# EAGLE library part USB3.1 (library Connector)
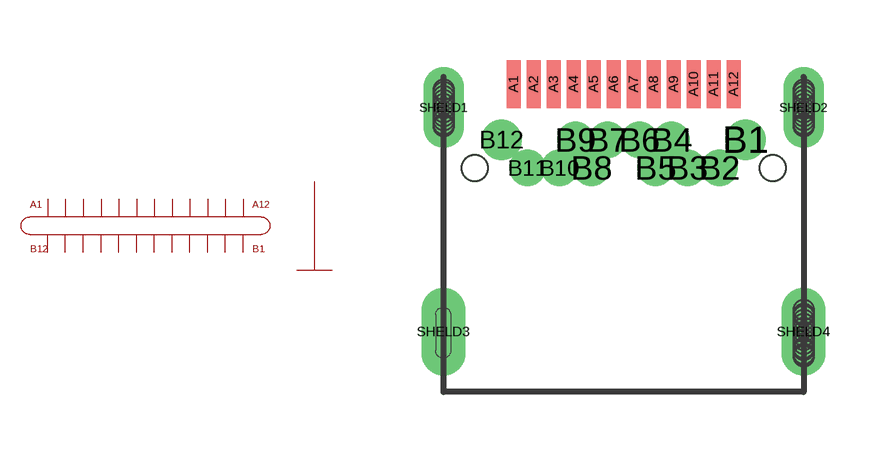
[diagram p1: symbol with the pads of USB3.1_24PIN; footprint USB3.1_24PIN]

Designator prefix -

## USB3.1  [USB3.1_24PIN]
A1  A1
A2  A2
A3  A3
A4  A4
A5  A5
A6  A6
A7  A7
A8  A8
A9  A9
A10  A10
A11  A11
A12  A12
B1  B12
B2  B11
B3  B10
B4  B9
B5  B8
B6  B7
B7  B6
B8  B5
B9  B4
B10  B3
B11  B2
B12  B1
SHELD1  SHELD1
SHELD2  SHELD2
SHELD3  SHELD3
SHELD4  SHELD4

## Footprint USB3.1_24PIN (pad centres in mm)
smd 0.35 x 1.2: A1 -2.75,2.1; A2 -2.25,2.1; A3 -1.75,2.1; A4 -1.25,2.1; A5 -0.75,2.1; A6 -0.25,2.1; A7 0.25,2.1; A8 0.75,2.1; A9 1.25,2.1; A10 1.75,2.1; A11 2.25,2.1; A12 2.75,2.1
drill 0.5 pad 0.711: B1 3.05,0.7; B12 -3.05,0.7
drill 0.4 pad 0.61: B2 2.4,0; B3 1.6,0; B4 1.2,0.7; B5 0.8,0; B6 0.4,0.7; B7 -0.4,0.7; B8 -0.8,0; B9 -1.2,0.7; B10 -1.6,0; B11 -2.4,0
drill 0.3 pad 1.016 long: SHELD1 -4.5,1.51; SHELD2 4.5,1.51
drill 0.3 pad 1.1 long: SHELD3 -4.5,-4.1; SHELD4 4.5,-4.1
hole 0.5 at -4.5,1.05
hole 0.5 at -4.5,1.9
hole 0.5 at -4.5,1.7
hole 0.5 at -4.5,1.3
hole 0.5 at -4.5,1.8
hole 0.5 at -4.5,1.2
hole 0.5 at -4.5,1.6
hole 0.5 at -4.5,1.4
hole 0.5 at -4.5,1.1
hole 0.5 at -4.5,1.96
hole 0.5 at 4.5,1.05
hole 0.5 at 4.5,1.9
hole 0.5 at 4.5,1.7
hole 0.5 at 4.5,1.3
hole 0.5 at 4.5,1.8
hole 0.5 at 4.5,1.2
hole 0.5 at 4.5,1.6
hole 0.5 at 4.5,1.4
hole 0.5 at 4.5,1.1
hole 0.5 at 4.5,1.96
hole 0.65 at 3.725,0
hole 0.65 at -3.725,0
hole 0.5 at 4.5,-4.56
hole 0.5 at 4.5,-3.71
hole 0.5 at 4.5,-3.91
hole 0.5 at 4.5,-4.31
hole 0.5 at 4.5,-3.81
hole 0.5 at 4.5,-4.41
hole 0.5 at 4.5,-4.01
hole 0.5 at 4.5,-4.21
hole 0.5 at 4.5,-4.51
hole 0.5 at 4.5,-3.65
hole 0.5 at 4.5,-4.11
hole 0.5 at 4.5,-4.65
hole 0.5 at 4.5,-4.71
hole 0.5 at 4.5,-4.72
hole 0.5 at 4.5,-3.56
hole 0.5 at 4.5,-3.55
hole 0.5 at -4.5,1.5
hole 0.5 at 4.5,1.48